# Altium integrated library 4D Systems Graphics Processors.IntLib: 3 symbols
Pins are listed as number, name and electrical type; pins without a type are passive.

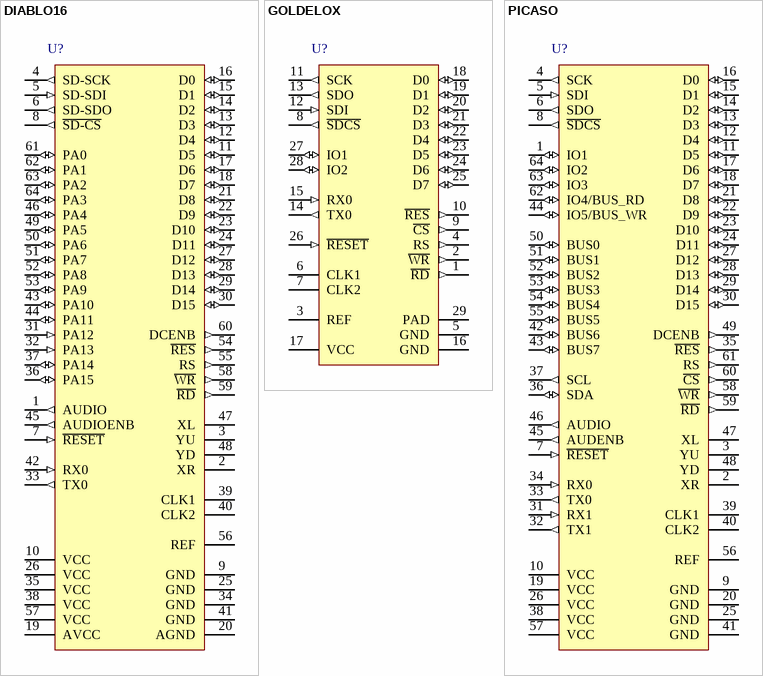
[diagram p0: symbols DIABLO16 to PICASO]

## DIABLO16
designator U?
DIABLO16 Processor, Embedded Graphics Controller, 6 Banks of 32 KB FLASH Memory, 32 KB SRAM, 12 bits A/D Converter Resolution, 70 MHz, -40 to 80 degC, 64-Pin TQFP, RoHS, Tray; Manufacturer: 4D Systems; Supply Voltage (VCC): 3 to 3.6 V; External Crystal (Xtal) (Typ.): 12 MHz; Supply Current (ICC) (Typ.): 70 mA; Internal Operating Frequency: 70 MHz; A/D Converter Resolution (Max.): 12 Bits; FLASH Memory: 6 x 32 KB; SRAM: 32 KB; Flash Memory Endurance: 10000 E/W; DatasheetVersion: Rev. 1.3; PackageVersion: Rev. 1.3; PackageReference: TQFP-64; PackageDescription: 64-Pin Plastic Thin Quad Flatpack, Body 10 x 10 mm, Pitch 0.5 mm; Supplier 1: Mouser; Supplier Part Number 1: 971-DIABLO-16; Operating Temperature Range: -40 to 80 degC; RoHS: TRUE; Packing: Tray; Mounting Technology: Surface Mount; PartNumber: DIABLO16; ComponentLink1Description: Manufacturer URL; ComponentLink1URL: http://www.4dsystems.com.au/; ComponentLink2Description: Datasheet; ComponentLink2URL: http://www.4dsystems.com.au/productpages/DIABLO16/downloads/DIABLO16_datasheet_R_1_3.pdf
footprint 4DS-TQFP-64_V (TQFP, 64-Leads, Body 10x10mm, Pitch 0.5mm)
pins: 1 AUDIO (out) "Pulse Width Modulated (PWM) Audio output. Connect this pin to a 2 stage low pass filter then into an audio amplifier.", 2 XR "4-Wire Resistive Touch Screen Right signal. Connect this pin to XR or X+ signal of the touch panel.", 3 YU "4-Wire Resistive Touch Screen Up signal. Connect this pin to YU or Y+ signal of the touch panel.", 4 SD-SCK (out) "SPI Serial Clock output. SD memory card use only. Connect this pin to the SPI Serial Clock (SCK) signal of the memory card.", 5 SD-SDI (in) "SPI Serial Data Input. SD memory card use only. Connect this pin to the SPI Serial Data Out (SDO) signal of the memory card.", 6 SD-SDO (out) "SPI Serial Data Output. SD memory card use only. Connect this pin to the SPI Serial Data In (SDI) signal of the memory card.", 7 ~{RESET} (in) "Master Reset signal. Connect a 4.7K pull-up resistor from this pin to VCC. Active Low", 8 ~{SD-CS} (out) "SD Memory-Card Chip Select. SD memory card use only. Connect this pin to the Chip Enable (CS) signal of the memory card.", 9 GND (power) "Device Ground.", 10 VCC (power) "Device Positive Supply.", 11 D5 (io) "Display Data Bus bit 5.", 12 D4 (io) "Display Data Bus bit 4.", 13 D3 (io) "Display Data Bus bit 3.", 14 D2 (io) "Display Data Bus bit 2.", 15 D1 (io) "Display Data Bus bit 1.", 16 D0 (io) "Display Data Bus bit 0.", 17 D6 (io) "Display Data Bus bit 6.", 18 D7 (io) "Display Data Bus bit 7.", 19 AVCC (power) "Analog Positive Supply.Option 1: Connect to VCC via a 12ohm resistor, and with a 4.7uF Capacitor to AGNDOption 2: Connect to VCC via an Inductor with has a resistance of less than 1ohm, and a capacity greater than 10mA, and a 4.7uF Capacitor to AGND. Thi", 20 AGND (power) "Analog Ground. Connect this to GND.", 21 D8 (io) "Display Data Bus bit 8.", 22 D9 (io) "Display Data Bus bit 9.", 23 D10 (io) "Display Data Bus bit 10.", 24 D11 (io) "Display Data Bus bit 11.", 25 GND (power) "Device Ground.", 26 VCC (power) "Device Positive Supply.", 27 D12 (io) "Display Data Bus bit 12.", 28 D13 (io) "Display Data Bus bit 13.", 29 D14 (io) "Display Data Bus bit 14.", 30 D15 (io) "Display Data Bus bit 15.", 31 PA12 (in) "General Purpose Input only pin. This pin is 5.0V tolerant.", 32 PA13 (in) "General Purpose Input only pin. This pin is 5.0V tolerant.", 33 TX0 (out) "Dedicated Asynchronous Serial port Transmit pin, TX. Connect this pin to host micro-controller Serial Receive (Rx) signal. The host receives data from DAIBLO16 via this pin. This pin is 5.0V tolerant. Processor Programming Pin.", 34 GND (power) "Device Ground.", 35 VCC (power) "Device Positive Supply.", 36 PA15 (io) "General Purpose I/O. This pin is 5.0V tolerant.", 37 PA14 (io) "General Purpose I/O. This pin is 5.0V tolerant.", 38 VCC (power) "Device Positive Supply.", 39 CLK1 "Device Clock input 1 of a 12MHz crystal.", 40 CLK2 "Device Clock input 2 of a 12MHz crystal.", 41 GND (power) "Device Ground.", 42 RX0 (in) "Asynchronous Serial port Receive pin, RX. Connect this pin to host micro-controller Serial Transmit (Tx) signal. The host transmits data to DIABLO16 via this pin. This pin is 5.0V tolerant. Processor Programming Pin.", 43 PA10 (io) "General Purpose I/O. This pin is 5.0V tolerant.", 44 PA11 (io) "General Purpose I/O. This pin is 5.0V tolerant.", 45 AUDIOENB (out) "Audio Enable. Connect this pin to amplifier control.LOW: Disable external Audio amplifier.HIGH: Enable external Audio amplifier.", 46 PA4 (io) "General Purpose I/O. This pin is 5.0V tolerant.", 47 XL "4-Wire Resistive Touch Screen Left signal. Connect this pin to XL or X- signal of the touch panel.", 48 YD "4-Wire resistive touch screen bottom signal. Connect this pin to YD or Y- signal of the touch panel.", 49 PA5 (io) "General Purpose I/O. This pin is 5.0V tolerant.", 50 PA6 (io) "General Purpose I/O. This pin is 5.0V tolerant.", 51 PA7 (io) "General Purpose I/O. This pin is 5.0V tolerant.", 52 PA8 (io) "General Purpose I/O. This pin is 5.0V tolerant.", 53 PA9 (io) "General Purpose I/O. This pin is 5.0V tolerant.", 54 ~{RES} (out) "Display RESET. DIABLO16 initialises the display by strobing this pin LOW. Connect this pin to the Reset (RES) signal of the display.", 55 RS (out) "Display Register Select.LOW: Display index or status register is selected.HIGH: Display GRAM or register data is selected.Connect this pin to the Register Select (RS or A0 or C/D or similar naming convention) signal of the display.", 56 REF "Internal voltage regulator filter capacitor pin. Connect a 4.7uF to 10uF capacitor from this pin to Ground. Position capacitor as close as possible.", 57 VCC (power) "Device Positive Supply.", 58 ~{WR} (out) "Display Write strobe signal. DIABLO16 asserts this signal LOW when writing data to the display. Connect this pin to the Write (WR) signal of the display.", 59 ~{RD} (out) "Display Read strobe signal. DIABLO16 asserts this signal LOW when reading data from the display. Connect this pin to the Read (RD) signal of the display.", 60 DCENB (out) "DC-DC high voltage enable signal. This maybe the high voltage that drives the LCD backlight or the OLED panel supply.High: Enable DC-DC converter. Low : Disable DC-DC converter", 61 PA0 (io) "General Purpose I/O pin with Analog Capability. This pin is 5.0V tolerant when used as a Digital, with a range of 0-3.3V when used as an Analog Input", 62 PA1 (io) "General Purpose I/O pin with Analog Capability. This pin is 5.0V tolerant when used as a Digital, with a range of 0-3.3V when used as an Analog Input", 63 PA2 (io) "General Purpose I/O pin with Analog Capability. This pin is 5.0V tolerant when used as a Digital, with a range of 0-3.3V when used as an Analog Input", 64 PA3 (io) "General Purpose I/O pin with Analog Capability. This pin is 5.0V tolerant when used as a Digital, with a range of 0-3.3V when used as an Analog Input"

## GOLDELOX
designator U?
GOLDELOX Processor, Embedded Graphics Controller, 10 KB FLASH Memory, 510 B SRAM, 8 bits A/D Converter Resolution,  48 MHz, -40 to 80 degC, 28-Pin QFN, Tube; Manufacturer: 4D Systems; Supply Voltage (VCC): 3 to 3.6 V; External Crystal (Xtal) (Typ.): 12 MHz; Supply Current (ICC) (Typ.): 12 mA; Internal Operating Frequency: 48 MHz; A/D Converter Resolution (Typ.): 8 Bits; FLASH memory: 10 KB; SRAM: 510 B; Flash Memory Endurance: 1000 E/W; DatasheetVersion: Rev. 1.0; PackageVersion: Rev. 1.0; PackageReference: QFN-28; PackageDescription: 28-Pin Quad Flat No-lead Package, Body 6 x 6 mm, Pitch 0.65 mm; Supplier 1: Mouser; Supplier Part Number 1: 971-GOLDELOX; Operating Temperature Range: -40 to 80 degC; Packing: Tube; Mounting Technology: Surface Mount; PartNumber: GOLDELOX; ComponentLink1Description: Manufacturer URL; ComponentLink1URL: http://www.4dsystems.com.au/; ComponentLink2Description: Datasheet; ComponentLink2URL: http://www.4dsystems.com.au/productpages/GOLDELOX/downloads/GOLDELOX_datasheet_R_1_0.pdf
footprint 4DS-QFN-3700X3700-28_V (QFN, 28-Leads, Body 6x6mm, Pitch 0.65mm, Thermal Pad 4.25x4.25mm)
pins: 1 ~{RD} (out) "Display Read strobe signal. GOLDELOX asserts this signal LOW when reading data from the display. Connect this pin to the Read (RD) signal of the display.", 2 ~{WR} (out) "Display Write strobe signal. GOLDELOX asserts this signal LOW when writing data to the display. Connect this pin to the Write (WR) signal of the display.", 3 REF "Internal voltage regulator filter capacitor. Connect a 4.7uF to 10uF capacitor from this pin to Ground.", 4 RS (out) "Display Register Select.", 5 GND (power) "Ground.", 6 CLK1 "System Clock input 1 of a 12MHz crystal.", 7 CLK2 "System Clock input 2 of a 12MHz crystal.", 8 ~{SDCS} (out) "SPI device Chip Select. Connect this pin to the Chip Enable (CE or CS) signal of the external SPI device (SD/SDHC memory card, Serial Flash chip, etc.).", 9 ~{CS} (out) "Display Chip Select. GOLDELOX asserts this signal LOW when accessing the display. Connect this pin to the Chip Select (CS) signal of the display.", 10 ~{RES} (out) "Display RESET. GOLDELOX initialises the display by strobing this pin LOW. Connect this pin to the Reset (RES) signal of the display.", 11 SCK (out) "SPI Serial Clock output. Connect this pin to the SPI Serial Clock (SCK) signal of the external device. Nominally reserved for SD/SDHC memory card or serial flash memory chip.", 12 SDI (in) "SPI Serial Data Input. Connect this pin to the SPI Serial Data Out (SDO) signal of the external device. Nominally reserved for SD/SDHC memory card or serial flash memory chip.", 13 SDO (out) "SPI Serial Data Output. Connect this pin to the SPI Serial Data In (SDI) signal of the external device. Nominally reserved for SD/SDHC memory card or serial flash memory chip.", 14 TX0 (out) "Asynchronous Serial Transmit pin. Output data is at TTL voltage levels. Connect this pin to external device Serial Receive (Rx) signal. This pin is tolerant up to 5.0V levels.", 15 RX0 (in) "Asynchronous Serial Receive pin. Connect this pin to external device Serial Transmit (Tx) signal. This pin is tolerant up to 5.0V levels.", 16 GND (power) "Ground.", 17 VCC (power) "Positive supply with respect to GND pin.", 18 D0 (io) "Display Data Bus bit 0.", 19 D1 (io) "Display Data Bus bit 1.", 20 D2 (io) "Display Data Bus bit 2.", 21 D3 (io) "Display Data Bus bit 3.", 22 D4 (io) "Display Data Bus bit 4.", 23 D5 (io) "Display Data Bus bit 5.", 24 D6 (io) "Display Data Bus bit 6.", 25 D7 (io) "Display Data Bus bit 7.", 26 ~{RESET} (in) "Master Reset signal. Connect a 4.7K resistor from this pin to VCC.", 27 IO1 (io) "General purpose IO1 pin. See Section 2.4 for more detail.", 28 IO2 (io) "General purpose IO2 pin. See Section 2.4 for more detail.", 29 PAD (power) "Exposed metal pad under the package, must connect to GND."

## PICASO
designator U?
PICASO Processor, Embedded Graphics Controller, 14 KB FLASH Memory, 14 KB SRAM, 8 bits A/D Converter Resolution, 48 MHz, -40 to 80 degC, 64-Pin TQFP, RoHS, Tray; Manufacturer: 4D Systems; Supply Voltage (VCC): 3 to 3.6 V; External Crystal (Xtal) (Typ.): 12 MHz; Supply Current (ICC) (Typ.): 50 mA; Internal Operating Frequency: 48 MHz; A/D Converter Resolution (Min.): 8 Bits; FLASH Memory: 14 KB; Flash Memory Endurance: 10000 E/W; DatasheetVersion: Rev. 1.1; PackageVersion: Rev. 1.1; PackageReference: TQFP-64; PackageDescription: 64-Pin Plastic Thin Quad Flatpack, Body 10 x 10 mm, Pitch 0.5 mm; Supplier 1: Mouser; Supplier Part Number 1: 971-PICASO; SRAM: 14 KB; Operating Temperature Range: -40 to 80 degC; RoHS: TRUE; Packing: Tray; Mounting Technology: Surface Mount; PartNumber: PICASO; ComponentLink1Description: Manufacturer URL; ComponentLink1URL: http://www.4dsystems.com.au/; ComponentLink2Description: Datasheet; ComponentLink2URL: http://www.4dsystems.com.au/productpages/PICASO/downloads/PICASO_datasheet_R_1_1.pdf
footprint 4DS-TQFP-64_V (TQFP, 64-Leads, Body 10x10mm, Pitch 0.5mm)
pins: 1 IO1 (io) "General Purpose IO1 pin. This pin is 5.0V tolerant.", 2 XR "4-Wire Resistive Touch Screen Right signal. Connect this pin to XR or X+ signal of the touch panel", 3 YU "4-Wire Resistive Touch Screen Up signal. Connect this pin to YU or Y+ signal of the touch panel.", 4 SCK (out) "SPI Serial Clock output. SD memory card use only. Connect this pin to the SPI Serial Clock (SCK) signal of the memory card.", 5 SDI (in) "SPI Serial Data Input. SD memory card use only. Connect this pin to the SPI Serial Data Out (SDO) signal of the memory card.", 6 SDO (out) "SPI Serial Data Output. SD memory card use only. Connect this pin to the SPI Serial Data In (SDI) signal of the memory card.", 7 ~{RESET} (in) "Master Reset signal. Connect a 4.7K resistor from this pin to VCC.", 8 ~{SDCS} (out) "SD Memory-Card Chip Select. SD memory card use only. Connect this pin to the Chip Enable (CS) signal of the memory card.", 9 GND (power) "Device Ground.", 10 VCC (power) "Device Positive Supply.", 11 D5 (io) "Display Data Bus bit 5.", 12 D4 (io) "Display Data Bus bit 4.", 13 D3 (io) "Display Data Bus bit 3.", 14 D2 (io) "Display Data Bus bit 2.", 15 D1 (io) "Display Data Bus bit1.", 16 D0 (io) "Display Data Bus bit 0.", 17 D6 (io) "Display Data Bus bit 6.", 18 D7 (io) "Display Data Bus bit 7.", 19 VCC (power) "Device Positive Supply.", 20 GND (power) "Device Ground.", 21 D8 (io) "Display Data Bus bit 8.", 22 D9 (io) "Display Data Bus bit 9.", 23 D10 (io) "Display Data Bus bit 10.", 24 D11 (io) "Display Data Bus bit 11.", 25 GND (power) "Device Ground.", 26 VCC (power) "Device Positive Supply.", 27 D12 (io) "Display Data Bus bit 12.", 28 D13 (io) "Display Data Bus bit 13.", 29 D14 (io) "Display Data Bus bit 14.", 30 D15 (io) "Display Data Bus bit 15.", 31 RX1 (in) "Asynchronous Serial port COM1 receive pin, RX1. Connect this pin to external serial device Transmit (Tx) signal. This pin is 5.0V tolerant.", 32 TX1 (out) "Asynchronous Serial port COM1 transmit pin, TX1. Connect this pin to external serial device receive (Rx) signal. This pin is 5.0V tolerant.", 33 TX0 (out) "Asynchronous Serial port Transmit pin, TX. Connect this pin to host micro-controller Serial Receive (Rx) signal. The host receives data from PICASO via this pin. This pin is 5.0V tolerant", 34 RX0 (in) "Asynchronous Serial port Receive pin, RX. Connect this pin to host micro-controller Serial Transmit (Tx) signal. The host transmits data to PICASO via this pin. This pin is 5.0V tolerant.", 35 ~{RES} (out) "Display RESET. PICASO initialises the display by strobing this pin LOW. Connect this pin to the Reset (RES) signal of the display.", 36 SDA (io) "I2C Data In/Out.", 37 SCL (out) "I2C Clock Output", 38 VCC (power) "Device Positive Supply.", 39 CLK1 "Device Clock input 1 of a 12MHz crystal.", 40 CLK2 "Device Clock input 2 of a 12MHz crystal.", 41 GND (power) "Device Ground.", 42 BUS6 (io) "General Purpose Parallel I/O BUS(0..7), bit 6. This pin is 5.0V tolerant.", 43 BUS7 (io) "General Purpose Parallel I/O BUS(0..7), bit 7. This pin is 5.0V tolerant.", 44 IO5/BUS_WR (io) "General Purpose IO5 pin. Also used for BUS_WR signal to write and latch the data to the parallel GPIO BUS(0..7).", 45 AUDENB (out) "Audio Enable. Connect this pin to amplifier control.LOW: Enable external Audio amplifier. HIGH : Disable external Audio amplifier.", 46 AUDIO (out) "Pulse Width Modulated (PWM) Audio output. Connect this pin to a 2 stage low pass filter then into an audio amplifier.", 47 XL "4-Wire Resistive Touch Screen Left signal. Connect this pin to XL or X- signal of the touch panel.", 48 YD "4-Wire resistive touch screen bottom signal. Connect this pin to YD or Y- signal of the touch panel.", 49 DCENB (out) "DC-DC high voltage enable signal. This maybe the high voltage that drives the LCD backlight or the OLED panel supply.High: Enable DC-DC converter.Low : Disable DC-DC converter.", 50 BUS0 (io) "General Purpose Parallel I/O BUS(0..7), bit 0. This pin is 5.0V tolerant.", 51 BUS1 (io) "General Purpose Parallel I/O BUS(0..7), bit 1. This pin is 5.0V tolerant.", 52 BUS2 (io) "General Purpose Parallel I/O BUS(0..7), bit 2. This pin is 5.0V tolerant.", 53 BUS3 (io) "General Purpose Parallel I/O BUS(0..7), bit 3. This pin is 5.0V tolerant.", 54 BUS4 (io) "General Purpose Parallel I/O BUS(0..7), bit 4. This pin is 5.0V tolerant.", 55 BUS5 (io) "General Purpose Parallel I/O BUS(0..7), bit 5. This pin is 5.0V tolerant.", 56 REF "Internal voltage regulator filter capacitor. Connect a 4.7uF to 10uF capacitor from this pin to Ground.", 57 VCC (power) "Device Positive Supply.", 58 ~{WR} (out) "Display Write strobe signal. PICASO asserts this signal LOW when writing data to the display. Connect this pin to the Write (WR) signal of the display.", 59 ~{RD} (out) "Display Read strobe signal. PICASO asserts this signal LOW when reading data from the display. Connect this pin to the Read (RD) signal of the display", 60 ~{CS} (out) "Display Chip Select. PICASO asserts this signal LOW when accessing the display. Connect this pin to the Chip Select (CS) signal of the display.", 61 RS (out) "Display Register Select.LOW: Display index or status register is selected.HIGH: Display GRAM or register data is selected.Connect this pin to the Register Select (RS or A0 or C/D or similar naming convention) signal of the display", 62 IO4/BUS_RD (io) "General Purpose IO4 pin. Also used for BUS_RD signal to read and latch the data in to the parallel GPIO BUS(0..7).", 63 IO3 (io) "General Purpose IO3 pin. This pin is 5.0V tolerant.", 64 IO2 (io) "General Purpose IO2 pin. This pin is 5.0V tolerant."